# EAGLE library part RFM69C (library RFM69C)
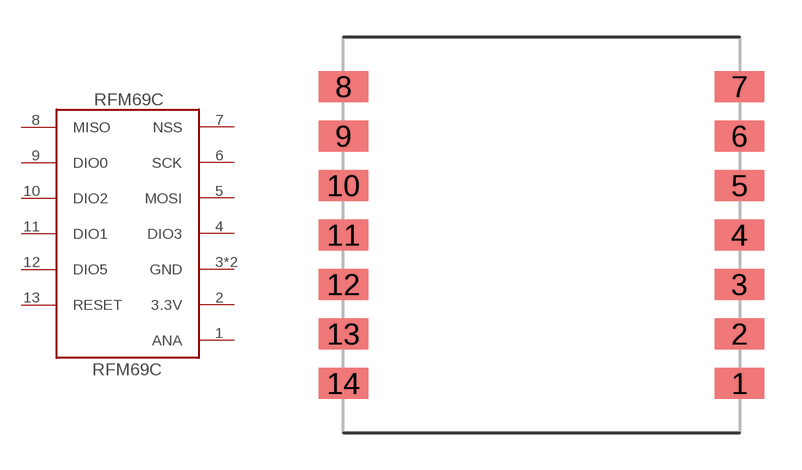
[diagram p0: symbol with the pads of RFM69C; footprint RFM69C]

Designator prefix -

## RFM69C  [RFM69C]
1  ANA
2  3.3V  pwr
3  GND
4  DIO3
5  MOSI
6  SCK
7  NSS
8  MISO
9  DIO0
10  DIO2
11  DIO1
12  DIO5
13  RESET
14  GND

## Footprint RFM69C (pad centres in mm)
smd 2 x 1.25: 1 8,-6; 2 8,-4; 3 8,-2; 4 8,0; 5 8,2; 6 8,4; 7 8,6; 8 -8,6; 9 -8,4; 10 -8,2; 11 -8,0; 12 -8,-2; 13 -8,-4; 14 -8,-6